# EAGLE library part TPS22860 (library Micromirror_Ampli_PCB)
Power Switch ICs - Power Distribution Dual Slot Power Interface, SOT-23-6, Texas Instruments, Mouser : 595-TPS22860DBVR
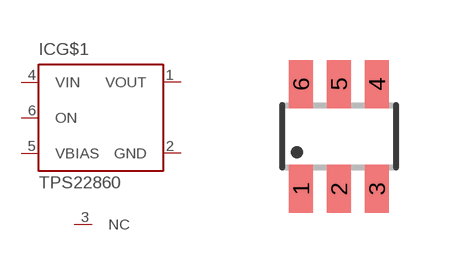
[diagram p4: symbol with the pads of SOT23-6; footprint SOT23-6]

Designator prefix IC; gates G$1=TPS22860 NC1=NC

## TPS22860DBVR (BIAS-VOLTAGE-RANGE: 1,65 to 5,5V; CASE: SOT-23-6; DIGI-KEY: 296-43982-1-ND; MANUFACTURER: Texas Instruments; MAX-CONTINUOUS_SWITCH-CURRENT: 200mA; MOUSER: 595-TPS22860DBVR; R-ON-5V: 0,73 Ohms)  [SOT23-6]
1  G$1:VOUT  pas
2  G$1:GND  pwr
3  NC1:NC  nc
4  G$1:VIN  in
5  G$1:VBIAS  in
6  G$1:ON  in

## Footprint SOT23-6 (pad centres in mm)
Case SOT23-6 (TSOP6) => l x p x h / 2.9 x 1.6 x 1.1 mm )
smd 0.6 x 1.2: 1 -0.95,-1.31; 2 0,-1.31; 3 0.95,-1.31; 4 0.95,1.31; 5 0,1.31; 6 -0.95,1.31